# EAGLE library part MOBILEYE (library comma.ai)
MobileEye connector for Acura ILX
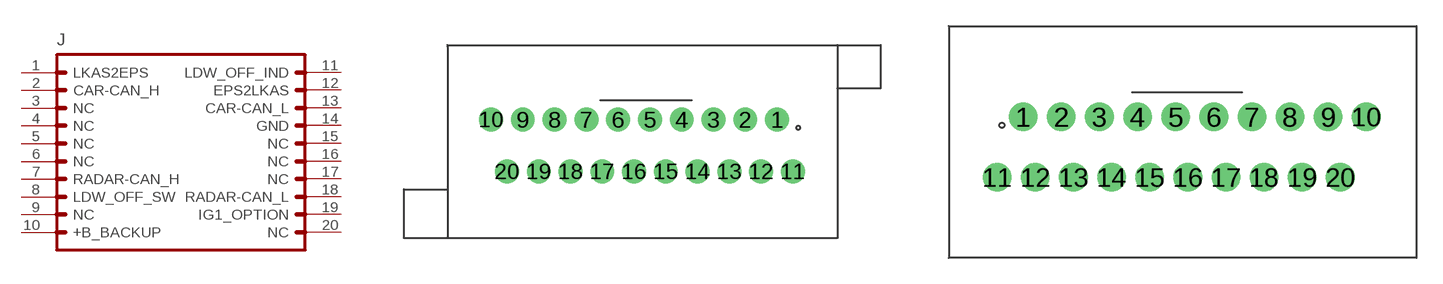
[diagram p4: symbol with the pads of 2X10; footprints 2X10, 2X10(JAE_FEMALE)]

Designator prefix J

## MOBILEYEMALE  [2X10]
1  LKAS2EPS
2  CAR-CAN_H
3  NC
4  NC
5  NC
6  NC
7  RADAR-CAN_H
8  LDW_OFF_SW
9  NC
10  +B_BACKUP
11  LDW_OFF_IND
12  EPS2LKAS
13  CAR-CAN_L
14  GND
15  NC
16  NC
17  NC
18  RADAR-CAN_L
19  IG1_OPTION
20  NC

## MOBILEYEFEMALE  [2X10(JAE_FEMALE)]
Pads as for 2X10

## MOBILEYERAMALE  [2X10(RA)]
Pads as for 2X10

## Footprint 2X10 (pad centres in mm)
PIN HEADER
drill 1.1 pad 1.422: 1 9.83,1.83; 2 7.63,1.83; 3 5.43,1.83; 4 3.23,1.83; 5 1.03,1.83; 6 -1.17,1.83; 7 -3.37,1.83; 8 -5.57,1.83; 9 -7.77,1.83; 10 -9.97,1.83; 11 10.93,-1.77; 12 8.73,-1.77; 13 6.53,-1.77; 14 4.33,-1.77; 15 2.13,-1.77; 16 -0.07,-1.77; 17 -2.27,-1.77; 18 -4.47,-1.77; 19 -6.67,-1.77; 20 -8.87,-1.77

## Footprint 2X10(JAE_FEMALE) (pad centres in mm)
PIN HEADER
drill 1.1 pad 1.422: 1 -8.7,1.75; 2 -6.5,1.75; 3 -4.3,1.75; 4 -2.1,1.75; 5 0.1,1.75; 6 2.3,1.75; 7 4.5,1.75; 8 6.7,1.75; 9 8.9,1.75; 10 11.1,1.75; 11 -10.2,-1.75; 12 -8,-1.75; 13 -5.8,-1.75; 14 -3.6,-1.75; 15 -1.4,-1.75; 16 0.8,-1.75; 17 3,-1.75; 18 5.2,-1.75; 19 7.4,-1.75; 20 9.6,-1.75

## Footprint 2X10(RA) (pad centres in mm)
PIN HEADER
drill 1.1 pad 1.422: 1 9.83,1.83; 2 7.63,1.83; 3 5.43,1.83; 4 3.23,1.83; 5 1.03,1.83; 6 -1.17,1.83; 7 -3.37,1.83; 8 -5.57,1.83; 9 -7.77,1.83; 10 -9.97,1.83; 11 10.93,-1.77; 12 8.73,-1.77; 13 6.53,-1.77; 14 4.33,-1.77; 15 2.13,-1.77; 16 -0.07,-1.77; 17 -2.27,-1.77; 18 -4.47,-1.77; 19 -6.67,-1.77; 20 -8.87,-1.77
hole 3.2 at -10.47,-7.47
hole 3.2 at 11.43,-7.47